# Altium schematic symbol library nRF24LE1F16Q24.SCHLIB: 5 symbols
Pins are listed as number, name and electrical type; pins without a type are passive.

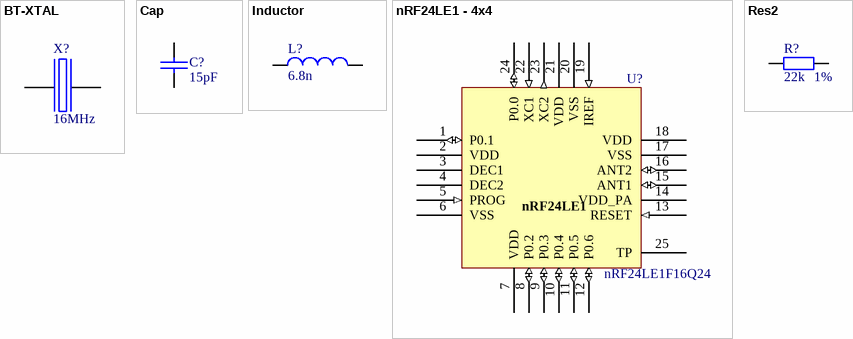
[diagram p0: symbols BT-XTAL to Res2]

## BT-XTAL
designator X?, comment value 16MHz  (hidden comment: TSX-3225, 16MHz, Cl=9pF, +/-10ppm)
Crystal
footprint bt-xtal 3225 (Mercury X32 series)
pins: 1 inp, 2 GND hidden to GND, 3 out, 4 GND hidden to GND

## Cap
designator C?, comment value 15pF  (hidden comment: NP0 50V)
Capacitor; Part Field 1: 0402
footprint 0402s
pins: 1, 2

## Inductor
designator L?, comment value 6.8n  (hidden comment: Murata LQP15MN6N8B02D)
Inductor; Code_IEC: 1005; Published: 8-Jun-2000; LatestRevisionDate: 17-Jul-2002; LatestRevisionNote: Re-released for DXP Platform.; PackageReference: 0402-A; Publisher: Altium Limited; Code_JEITA: 0402
footprint 0402s
footprint L0603 (Chip Inductor; Body 1.6 x 0.8 mm (LxW typ))
footprint 2012_Chip (2012 Chip; Chip Inductor; Body 2.0 x 1.2 mm (LxW typ))
footprint 2029 (Chip Inductor; Body 2 x 1.2 mm (LxW typ))
footprint 3261 (3216 Chip; Chip Inductor; Body 3.2 x 1.6 mm (LxW typ))
footprint 4564_Chip (4564 Chip; Chip Inductor; Body 4.5 x 6.4 mm (LxW typ))
simulation model INDUCTOR (Inductor)
signal-integrity model Inductor
pins: 1, 2

## nRF24LE1 - 4x4
designator U?, comment value nRF24LE1F16Q24  (hidden comment: QFN24 4x4 package)
2.4GHz Tranceiver with embedded MCU and 10 bit ADC
footprint Nordic_QFN50P400X400X90-25N (QFN24 4x4x0.85mm, 0.5mm pitch - Medium Density)
pins: 1 P0.1 (io), 2 VDD (power), 3 DEC1 (power), 4 DEC2 (power), 5 PROG (in), 6 VSS (power), 7 VDD (power), 8 P0.2 (io), 9 P0.3 (io), 10 P0.4 (io), 11 P0.5 (io), 12 P0.6 (io), 13 RESET (in), 14 VDD_PA (power), 15 ANT1 (io), 16 ANT2 (io), 17 VSS (power), 18 VDD (power), 19 IREF (in), 20 VSS (power), 21 VDD (power), 22 XC1 (in), 23 XC2 (out), 24 P0.0 (io), 25 TP
text: nRF24LE1

## Res2
designator R?, comment 1%  value 22k
Resistor; Published: 8-Jun-2000; LatestRevisionDate: 17-Jul-2002; LatestRevisionNote: Re-released for DXP Platform.; PackageReference: AXIAL-0.4; Publisher: Altium Limited
footprint 0402s
simulation model RESISTOR (Resistor)
signal-integrity model Res
pins: 1, 2